# Altium schematic symbol library capstone.SchLib: 2 symbols
Pins are listed as number, name and electrical type; pins without a type are passive.

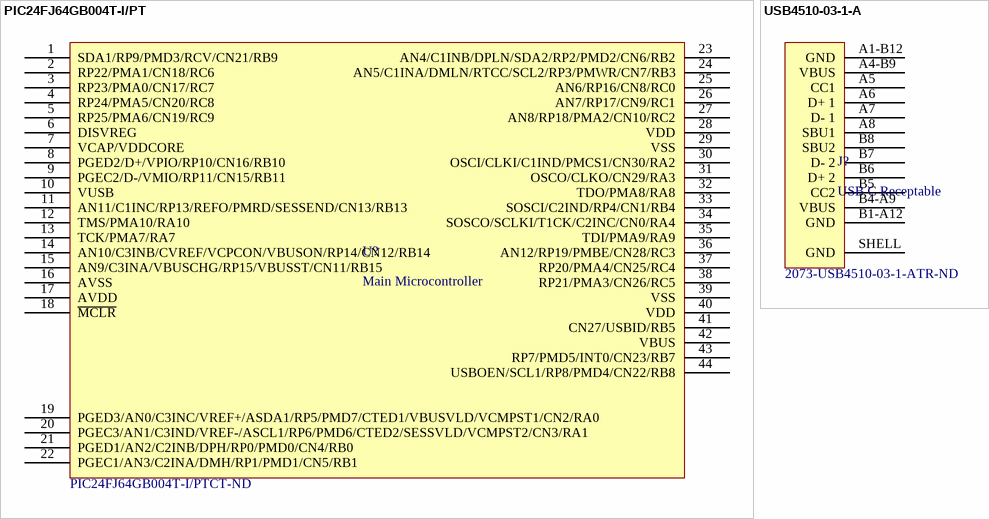
[diagram p0: symbols PIC24FJ64GB004T-I/PT to USB4510-03-1-A]

## PIC24FJ64GB004T-I/PT
designator U?, comment Main Microcontroller  Supplier Part Number 1: PIC24FJ64GB004T-I/PTCT-ND
16-bit MCU/DSC, 64 KB, 8192 Bytes, 32 MHz, 2 to 3.6V, TQFP-44, RoHS; Manufacturer: Microchip; Manufacturer Part Number: PIC24FJ64GB004T-I/PT; Min Supply Voltage: 2V; Number of I/Os: 33; Interface: I2C,SPI,IrDA,UART,USB,USART; RAM Size: 8KB; Number of Timers/Counters: 5; Frequency: 32MHz; Data Bus Width: 16b; Memory Type: FLASH; Memory Size: 64KB; Core Architecture: PIC; Oscillator Type: Internal; Watchdog Timer: Yes; Peripherals: Brown-out Detect/Reset,POR,PWM,WDT; Supplier 1: Digi-Key; RoHS: Yes; Category: Microcontrollers; Stock 1: 2389; Pricing 1: 1=5.00000, 25=4.57720, 100=4.15150 (USD); Mount: Surface Mount; Case/Package: TQFP; Number of Pins: 44; Min Operating Temperature: -40°C; Max Operating Temperature: 85°C; Max Supply Voltage: 3.6V; Packaging: Tape and Reel; Package Quantity: 1200; Number of Programmable I/O: 33; Max Frequency: 32MHz; Series: PIC® XLP™ 24F; Radiation Hardening: No; RoHS Compliant: Yes; Lead Free: Lead Free; ComponentLink1URL: https://datasheet.ciiva.com/1576/39940d-1576971.pdf?src-supplier=Digi-Key; ComponentLink1Description: https://datasheet.ciiva.com/1576/39940d-1576971.pdf?src-supplier=Digi-Key
pins: 1 SDA1/RP9/PMD3/RCV/CN21/RB9, 2 RP22/PMA1/CN18/RC6, 3 RP23/PMA0/CN17/RC7, 4 RP24/PMA5/CN20/RC8, 5 RP25/PMA6/CN19/RC9, 6 DISVREG, 7 VCAP/VDDCORE, 8 PGED2/D+/VPIO/RP10/CN16/RB10, 9 PGEC2/D-/VMIO/RP11/CN15/RB11, 10 VUSB, 11 AN11/C1INC/RP13/REFO/PMRD/SESSEND/CN13/RB13, 12 TMS/PMA10/RA10, 13 TCK/PMA7/RA7, 14 AN10/C3INB/CVREF/VCPCON/VBUSON/RP14/CN12/RB14, 15 AN9/C3INA/VBUSCHG/RP15/VBUSST/CN11/RB15, 16 AVSS, 17 AVDD, 18 ~{MCLR}, 19 PGED3/AN0/C3INC/VREF+/ASDA1/RP5/PMD7/CTED1/VBUSVLD/VCMPST1/CN2/RA0, 20 PGEC3/AN1/C3IND/VREF-/ASCL1/RP6/PMD6/CTED2/SESSVLD/VCMPST2/CN3/RA1, 21 PGED1/AN2/C2INB/DPH/RP0/PMD0/CN4/RB0, 22 PGEC1/AN3/C2INA/DMH/RP1/PMD1/CN5/RB1, 23 AN4/C1INB/DPLN/SDA2/RP2/PMD2/CN6/RB2, 24 AN5/C1INA/DMLN/RTCC/SCL2/RP3/PMWR/CN7/RB3, 25 AN6/RP16/CN8/RC0, 26 AN7/RP17/CN9/RC1, 27 AN8/RP18/PMA2/CN10/RC2, 28 VDD, 29 VSS, 30 OSCI/CLKI/C1IND/PMCS1/CN30/RA2, 31 OSCO/CLKO/CN29/RA3, 32 TDO/PMA8/RA8, 33 SOSCI/C2IND/RP4/CN1/RB4, 34 SOSCO/SCLKI/T1CK/C2INC/CN0/RA4, 35 TDI/PMA9/RA9, 36 AN12/RP19/PMBE/CN28/RC3, 37 RP20/PMA4/CN25/RC4, 38 RP21/PMA3/CN26/RC5, 39 VSS, 40 VDD, 41 CN27/USBID/RB5, 42 VBUS, 43 RP7/PMD5/INT0/CN23/RB7, 44 USBOEN/SCL1/RP8/PMD4/CN22/RB8

## USB4510-03-1-A
designator J?, comment USB C Receptable  Supplier Part Number 1: 2073-USB4510-03-1-ATR-ND
USB Type C Receptacle for USB 2.0, SMT Type Mid Mount, 1.6mm Offset; Manufacturer: Global Connector Technology; Manufacturer Part Number: USB4510-03-1-A; Supplier 1: Digi-Key; RoHS: No; Category: Uncategorized
pins: A1-B12 GND, A4-B9 VBUS, A5 CC1, A6 D+ 1, A7 D- 1, A8 SBU1, B1-A12 GND, B4-A9 VBUS, B5 CC2, B6 D+ 2, B7 D- 2, B8 SBU2, SHELL GND